# Altium integrated library SN74HC594N.IntLib: 1 symbol
Pins are listed as number, name and electrical type; pins without a type are passive.

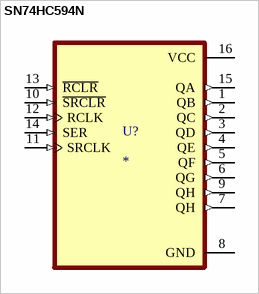
[diagram p0: symbol SN74HC594N]

## SN74HC594N
designator U?
8-Bit Shift Registers With Output Registers 16-PDIP -40 to 125; MF: Texas Instruments; MP: SN74HC594N; Value: *; Price: None; Package: PDIP-16 Texas Instruments; Availability: Good; Purchase-URL: https://pricing.snapeda.com/search/part/SN74HC594N/?ref=eda; SnapEDA_Link: https://www.snapeda.com/parts/SN74HC594N/Texas%20Instruments/view-part/438437/?ref=snap; Check_prices: https://www.snapeda.com/parts/SN74HC594N/Texas%20Instruments/view-part/438437/?ref=eda
footprint DIP794W45P254L1969H508Q16
pins: 1 QB (out), 2 QC (out), 3 QD (out), 4 QE (out), 5 QF (out), 6 QG (out), 7 QH (out), 8 GND (power), 9 QH (out), 10 ~{SRCLR} (in), 11 SRCLK (in), 12 RCLK (in), 13 ~{RCLR} (in), 14 SER (in), 15 QA (out), 16 VCC (power)